# Altium schematic symbol library ACM4520-231-2P-T.SchLib: 3 symbols
Pins are listed as number, name and electrical type; pins without a type are passive.

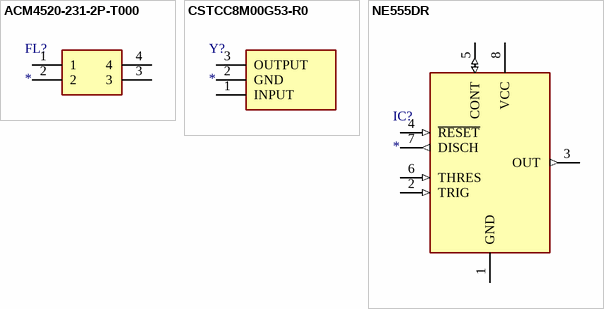
[diagram p0: symbols ACM4520-231-2P-T000 to NE555DR]

## ACM4520-231-2P-T000
designator FL?
Filter; Manufacturer_Name: TDK; Manufacturer_Part_Number: ACM4520-231-2P-T000; Datasheet Link: http://uk.rs-online.com/web/p/products/9164134P; RS Part Number: 9164134P; RS Price/Stock: http://uk.rs-online.com/web/p/products/9164134P
footprint ACM4520
pins: 1, 2, 3, 4

## CSTCC8M00G53-R0
designator Y?
Crystal or Oscillator; Manufacturer_Name: Murata Electronics; Manufacturer_Part_Number: CSTCC8M00G53-R0; Datasheet Link: https://static6.arrow.com/aropdfconversion/88614e16d89192a4753a3252faaa6ecdd300b683/36382473867110040p16e_auto.pdf; Height: 1.6mm; Mouser Part Number: 81-CSTCC8.00MG-TC; Mouser Price/Stock: https://www.mouser.co.uk/ProductDetail/Murata-Electronics/CSTCC8M00G53-R0?qs=hDePDv5mxMFOvJFSEOl81A%3D%3D; Arrow Part Number: CSTCC8M00G53-R0; Arrow Price/Stock: https://www.arrow.com/en/products/cstcc8m00g53-r0/murata-manufacturing
footprint CSTCC8M00G53R0
pins: 1 INPUT, 2 GND, 3 OUTPUT

## NE555DR
designator IC?
Integrated Circuit; Manufacturer_Name: Texas Instruments; Manufacturer_Part_Number: NE555DR; Datasheet Link: http://www.ti.com/lit/ds/symlink/ne555.pdf; Height: 1.75mm; Mouser Part Number: 595-NE555DR; Mouser Price/Stock: https://www.mouser.com/Search/Refine.aspx?Keyword=595-NE555DR; RS Part Number: 1218414; RS Price/Stock: http://uk.rs-online.com/web/p/products/1218414
footprint SOIC127P600X175-8N
pins: 1 GND (power), 2 TRIG (in), 3 OUT (out), 4 ~{RESET} (in), 5 CONT (io), 6 THRES (in), 7 DISCH (out), 8 VCC (power)